# Altium schematic symbol library passive.SchLib: 4 symbols
Pins are listed as number, name and electrical type; pins without a type are passive.

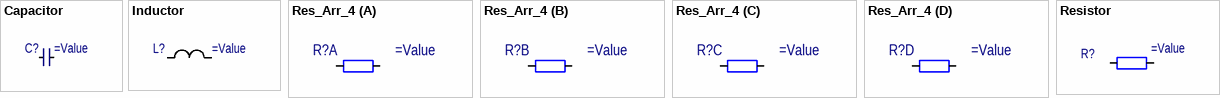
[diagram p0: symbols Capacitor to Resistor]

## Capacitor
designator C?
Generic capasitor non-polar
pins: 1, 2

## Inductor
designator L?
pins: 1, 2

## Res_Arr_4
designator R?
Resistor Array x4
part A pins: 1, 2
part B pins: 3, 4
part C pins: 5, 6
part D pins: 7, 8

## Resistor
designator R?
Generic resistor
pins: 1, 2